# Altium integrated library VL6180V1NR_1.IntLib: 1 symbol
Pins are listed as number, name and electrical type; pins without a type are passive.

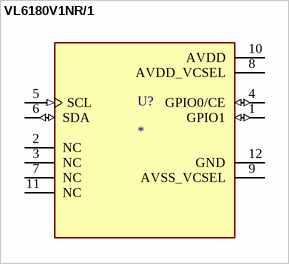
[diagram p0: symbol VL6180V1NR/1]

## VL6180V1NR/1
designator U?
MOD TIME-OF-FLIGHT 3IN1 12LGA; MP: VL6180V1NR/1; MF: STMicroelectronics; Package: SMD-12 STMicroelectronics; Check_prices: https://www.snapeda.com/parts/VL6180V1NR/1/STMicroelectronics/view-part/?ref=eda; Price: None; Availability: In Stock; Purchase-URL: https://pricing.snapeda.com/search/part/VL6180V1NR/1/?ref=eda; SnapEDA_Link: https://www.snapeda.com/parts/VL6180V1NR/1/STMicroelectronics/view-part/?ref=snap; Value: *
footprint XDCR_VL6180V1NR/1
pins: 1 GPIO1 (io), 2 NC, 3 NC, 4 GPIO0/CE (io), 5 SCL (in), 6 SDA (io), 7 NC, 8 AVDD_VCSEL (power), 9 AVSS_VCSEL (power), 10 AVDD (power), 11 NC, 12 GND (power)